# Altium schematic symbol library Ferrite Bead.SchLib: 1 symbol
Pins are listed as number, name and electrical type; pins without a type are passive.

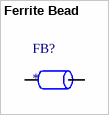
[diagram p0: symbol Ferrite Bead]

## Ferrite Bead
designator FB?
pins: 1, 2